# Altium footprint library 104MKP275KC.PcbLib: 1 footprints
Each footprint in its own frame and in the unit in brackets; x right, y up, seen from the top. Pads: shape width x height; smd on the part's side, far side on the other; paste and mask are expansions set on the pad; w line width, h text height; cw(c..) or ccw(c..) is an arc to the next point about the centre after c.
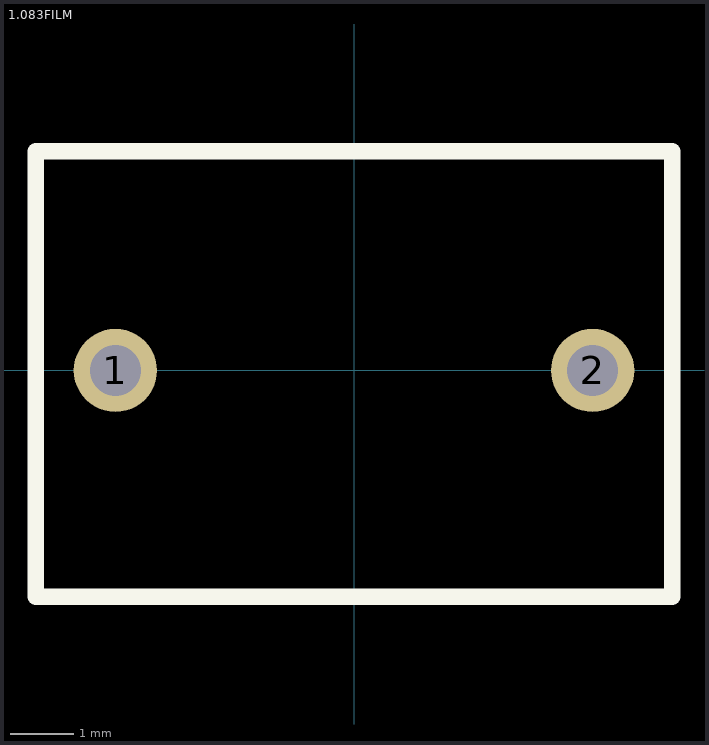
[diagram p0: the footprint, top view; thin cyan lines are the x and y axes]

## 1.083FILM [mm]
pads (2):
  round 1.308 hole 0.8: 1(-3.75,0) 2(3.75,0)
Top Overlay:
  lines w0.254: -5,-3.556 -5,3.444 5,3.444 5,-3.556 -5,-3.556